# Altium schematic symbol library SRD Generator.SCHLIB: 7 symbols
Pins are listed as number, name and electrical type; pins without a type are passive.

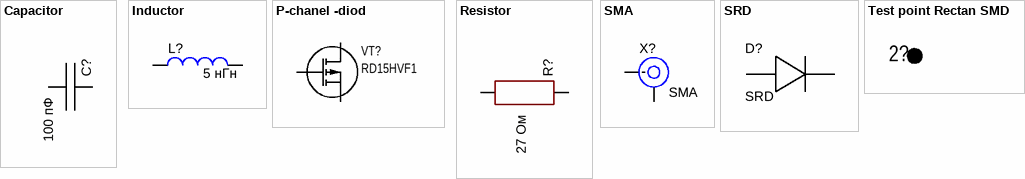
[diagram p0: symbols Capacitor to Test point Rectan SMD]

## Capacitor
designator C?, comment 100 пФ
Value: 50 нФ; Manufacturer: *; Model: *; HelpURL: *; ComponentKind: *; Name: *
footprint CH0201C
footprint CH0402C
footprint CH0603C (Chip Capacitor, 2-Leads, Body 1,53x0,85mm, IPC Medium Density)
footprint CH0805C (Chip Capacitor, 2-Leads, Body 2,00x1,20mm, IPC Medium Density)
footprint CH1206C (Non polar chip capacitor, size 1206)
footprint CH1210C (Non polar chip capacitor, size 1210)
footprint CH1812C
footprint CH2220C
footprint CAP: B32021
footprint CAP: B32522
footprint CAP: B32654
footprint CAP: B32774
footprint CAP: B32776
footprint CAP: ECW
footprint CAP: EZPE
footprint CAP: B32676
footprint CAP: DEBB33D
footprint CAP: B32674
footprint CAP: B32672L
footprint CAP: B32653A
footprint CAP: B32521
footprint CAP: B32923
pins: 1 (power), 2 (power)

## Inductor
designator L?  value 5 нГн  (hidden comment: Inductor)
Code_IEC: 1005; Published: 8-Jun-2000; LatestRevisionDate: 29-May-2009; LatestRevisionNote: IPC-7351 Footprint Added.; PackageReference: 0402-A; Publisher: Altium Limited; PackageDescription: Chip Inductor; Code_JEITA: 0402
footprint 0402-A (Chip Inductor, Body 1.0x0.5mm, IPC High Density)
footprint INDC1608L (Chip Inductor, Body 1.6x0.8mm, IPC High Density)
footprint 2029 (Chip Inductor, Body 2.0x1.2mm, IPC High Density)
footprint 0603 (Chip Inductor, Body 0.6x0.3mm, IPC High Density)
footprint INDC3216 (Chip Inductor, Body 3.2x1.6mm, IPC High Density)
footprint INDC4532 (Chip Inductor, Body 4.5x3.2mm, IPC High Density)
simulation model INDUCTOR (Inductor)
signal-integrity model Inductor
pins: 1, 2

## P-chanel -diod
designator VT?, comment RD15HVF1
Mosfet; Model: RD15HVF1; Manufacturer: *; ComponentKind: *; HelpURL: http://www.mitsubishielectric.com/semiconductors/content/product/highfrequency/siliconrf/discrete/rd15hvf1.pdf
footprint 8-HSOF
footprint TO220_123 (Generic TO-220 case, stay variant)
footprint TO220_132 (Generic TO-220 case, stay variant)
footprint TO220_321 (Generic TO-220 case, stay variant)
footprint TO247_123 (3-Lead Plastic TO-247)
footprint TO247_132 (3-Lead Plastic TO-247)
footprint SOT223 (SOT223, 4-Leads, Body 6,50x7,00mm (avg), Pitch 2,30mm, IPC Medium Density)
footprint SOT223_1324 (SOT223, 4-Leads, Body 6,50x7,00mm (avg), Pitch 2,30mm, IPC Medium Density)
footprint SOT23_123 (SOT23, 3-Leads, Body 3,0x2,6mm (max), Pitch 0,95mm, IPC Medium Density)
footprint SOT23_132 (SOT23, 3-Leads, Body 3,0x2,6mm (max), Pitch 0,95mm, IPC Medium Density)
footprint SOT23_231 (SOT23, 3-Leads, Body 3,0x2,6mm (max), Pitch 0,95mm, IPC Medium Density)
footprint SOT23_321 (SOT23, 3-Leads, Body 3,0x2,6mm (max), Pitch 0,95mm, IPC Medium Density)
footprint SOT89_123 (SOT89, 3-Leads, Body 4,50x2,45mm, Pitch 1,50mm, Lead Span 4,1mm, IPC Medium Density)
footprint SOT89_132 (SOT89, 3-Leads, Body 4,50x2,45mm, Pitch 1,50mm, Lead Span 4,1mm, IPC Medium Density)
pins: 1 G, 2 D, 3 S

## Resistor
designator R?, comment 27 Ом
Manufacturer: *; Model: *; HelpURL: *; ComponentKind: *; Value: 27 Ом; Name: *
footprint CH0201R
footprint CH0402R
footprint CH0603R
footprint CH0805R
footprint CH1206R (Chip Resistor, 2-Leads, Body 3,0x1,5mm, IPC Low Density)
footprint CH2010R
footprint CH2512R
footprint RES: SQP 10W
footprint R2512 (Resistor, 2-Leads, Body 6,40x3,20mm, IPC Medium Density)
pins: 1, 2

## SMA
designator X?
RF; Model: *; Manufacturer: *; ComponentKind: *; Docs: *
footprint CON: SMA-R
footprint SMA-90deg
pins: 1 IN, 2 IN

## SRD
designator D?
https://ru.mouser.com/datasheet/2/249/maom_s_a0004987266_1-2274246.pdf
footprint Diode Macom
pins: 1 A, 2 К

## Test point Rectan SMD
designator 2?, comment SMD, 1.5x1.5mm  (value not drawn)
Part Number: Test point Rectan SMD
footprint Test point Rectan SMD
pins: 1